# EAGLE library part TD-104-T-A (library TD-104-T-A)
CONN RECEPTACLE, 2.54MM, THT VERT, 8WAY Source: Datasheet
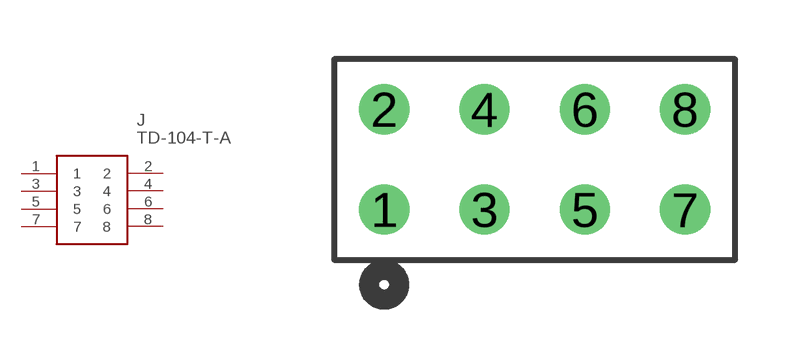
[diagram p0: symbol with the pads of SAMTEC_TD-104-T-A; footprint SAMTEC_TD-104-T-A]

Designator prefix J

## TD-104-T-A (Arrow_Part_Number: TD-104-T-A; Arrow_Price-Stock: https://www.arrow.com/en/products/td-104-t-a/samtec; Description: CONN RECEPTACLE, 2.54MM, THT VERT, 8WAY; Height: mm; Manufacturer_Name: SAMTEC; Manufacturer_Part_Number: TD-104-T-A)  [SAMTEC_TD-104-T-A]
1  1
2  2
3  3
4  4
5  5
6  6
7  7
8  8

## Footprint SAMTEC_TD-104-T-A (pad centres in mm)
SAMTEC_TD-104-T-A
drill 0.762 pad 1.143: 1 -7.62,-2.54; 2 -7.62,0; 3 -5.08,-2.54; 4 -5.08,0; 5 -2.54,-2.54; 6 -2.54,0; 7 0,-2.54; 8 0,0